# Altium footprint library IHLP-4040.PcbLib: 1 footprints
Each footprint in its own frame and in the unit in brackets; x right, y up, seen from the top. Pads: shape width x height; smd on the part's side, far side on the other; paste and mask are expansions set on the pad; w line width, h text height; cw(c..) or ccw(c..) is an arc to the next point about the centre after c.
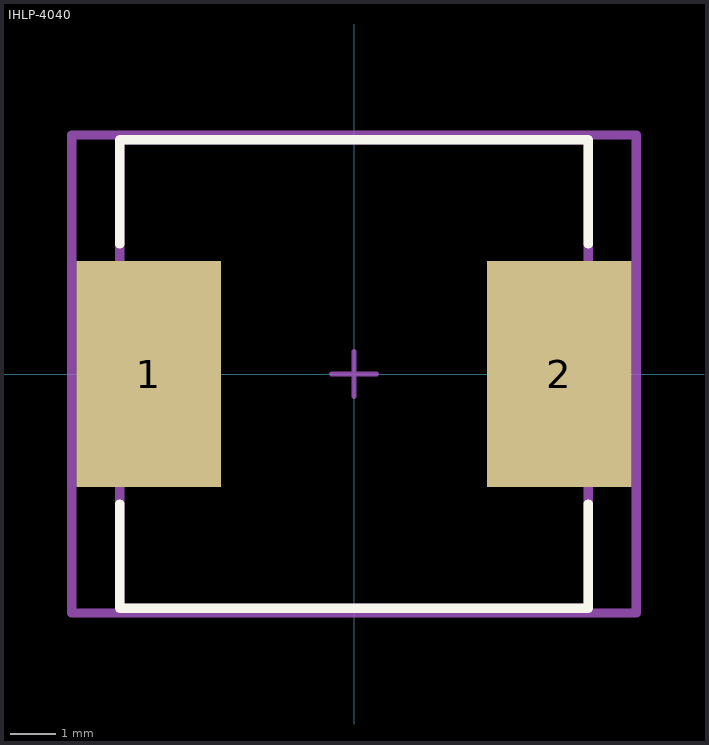
[diagram p0: the footprint, top view; thin cyan lines are the x and y axes]

## IHLP-4040 [mil]
pads (2):
  rect 125x195 smd paste+0 mask+0: 1(-177.5,0) 2(177.5,0)
Top Overlay:
  lines w7.87: -202.5,-112.26 -202.5,-202.5 202.5,-202.5 202.5,-112.26 ; -202.5,112.26 -202.5,202.5 202.5,202.5 202.5,112.26
Mechanical 5:
  lines w7.87: -243.94,-206.44 243.94,-206.44 243.94,206.44 -243.94,206.44 -243.94,-206.44
  text ".Designator" at 0,7.39 h39.37
Mechanical 13:
  lines w7.87: -202.5,-202.5 202.5,-202.5 202.5,202.5 -202.5,202.5 -202.5,-202.5
Mechanical 15:
  lines w7.87: -243.94,-206.44 243.94,-206.44 243.94,206.44 -243.94,206.44 -243.94,-206.44
Mechanical 16:
  lines w3.94: -19.68,0 19.68,0 ; 0,-19.68 0,19.68
3D body "Ind_Vishay_IHLP4040DZERR19M01_eec.STEP": height 10, standoff 0, extent -243.94,-206.44 243.94,206.44